# EAGLE library part MOCD217M (library misc)
Dual channel phototransistor output optocupler
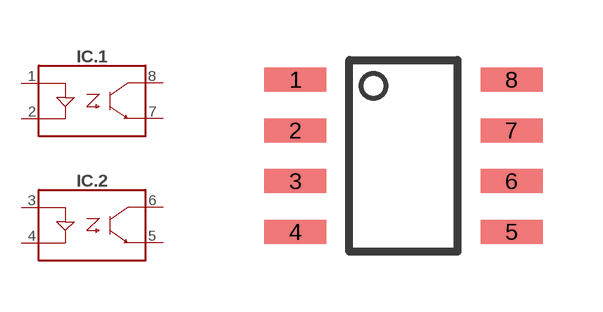
[diagram p24: symbol with the pads of SOIC8; footprint SOIC8]

Designator prefix IC; gates .1=OPTOCOUPLER .2=OPTOCOUPLER

## MOCD217M (LCSC#: C258262; MANF: onsemi; MANF#: MOCD217M)  [SOIC8]
1  .1:A
2  .1:C
3  .2:A
4  .2:C
5  .2:EMITTER
6  .2:COLLECTOR
7  .1:EMITTER
8  .1:COLLECTOR

## Footprint SOIC8 (pad centres in mm)
https://www.ti.com/lit/ds/snvsaq5a/snvsaq5a.pdf?ts=1602424164509
smd 1.55 x 0.6: 1 -2.7,1.905; 2 -2.7,0.635; 3 -2.7,-0.635; 4 -2.7,-1.905; 5 2.7,-1.905; 6 2.7,-0.635; 7 2.7,0.635; 8 2.7,1.905